# Altium footprint library TO-92.PcbLib: 1 footprints
Each footprint in its own frame and in the unit in brackets; x right, y up, seen from the top. Pads: shape width x height; smd on the part's side, far side on the other; paste and mask are expansions set on the pad; w line width, h text height; cw(c..) or ccw(c..) is an arc to the next point about the centre after c.
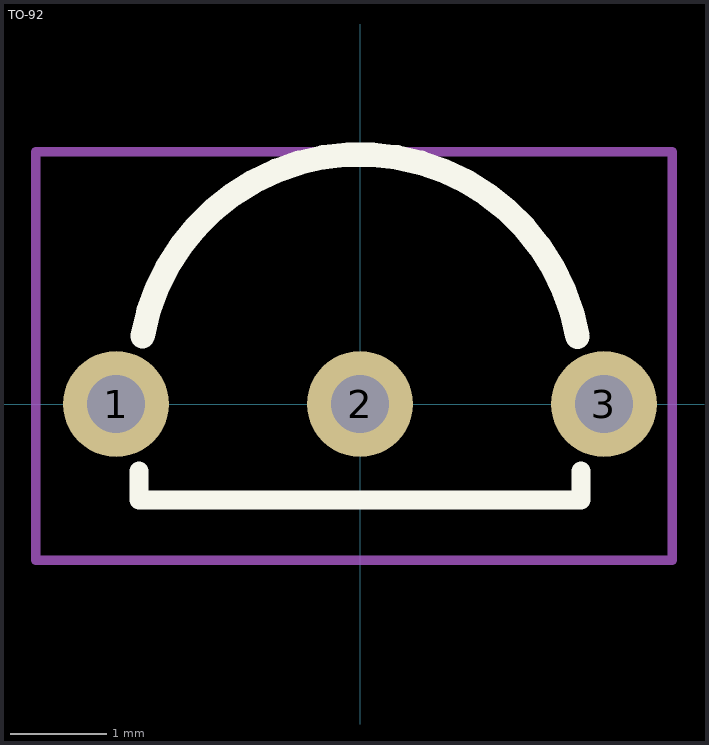
[diagram p0: the footprint, top view; thin cyan lines are the x and y axes]

## TO-92 [mm]
pads (3):
  round 1.1 hole 0.6: 1(-2.54,0) 2(0,0) 3(2.54,0)
Top Overlay:
  lines w0.2: -2.3,-0.7 -2.3,-1 2.3,-1 2.3,-0.7
  lines w0.254: -2.264,0.704 cw(c0,0.3) 2.265,0.701
Top Assembly:
  lines w0.1: -3.375,-1.625 -3.375,2.625 3.25,2.625 3.25,-1.625 -3.375,-1.625
  text "'.Designator'" at 0,0 h0.7
3D body "ALSRobot-TO-92W_.STEP": height 7.7, standoff -1.56, extent -2.755,-1.55 2.775,2.538